# Altium schematic symbol library LM7805CT_NOPB.SchLib: 1 symbol
Pins are listed as number, name and electrical type; pins without a type are passive.

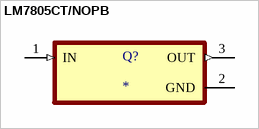
[diagram p0: symbol LM7805CT/NOPB]

## LM7805CT/NOPB
designator Q?
MF: {'manufacturer': u'Texas Instruments'}; MP: LM7805CT/NOPB; Package: None; Price: None; Value: *; Availability: Unavailable
footprint TO254P1054X470X1955-3
pins: 1 IN (in), 2 GND (power), 3 OUT (out)